# EAGLE library part 1X8 (library LARS_409_CONNECTORS)
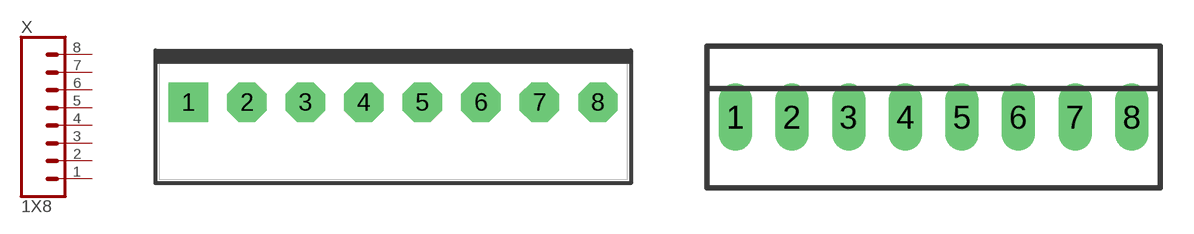
[diagram p2: symbol with the pads of JST-B8P-VH; footprints JST-B8P-VH, MOLEX-08]

Designator prefix X

## 1X8B8P-VH  [JST-B8P-VH]
1  1  pas
2  2  pas
3  3  pas
4  4  pas
5  5  pas
6  6  pas
7  7  pas
8  8  pas

## 1X8MOLEX-08  [MOLEX-08]
Pads as for JST-B8P-VH

## 1X8JST-XH-08  [JST-XH-08]
Pads as for JST-B8P-VH

## 1X8  [WF-8]
P$1  1  pas
P$2  2  pas
P$3  3  pas
P$4  4  pas
P$5  5  pas
P$6  6  pas
P$7  7  pas
P$8  8  pas

## 1X8EDGVC  [15EDGVC-3.5-8P]
Pads as for JST-B8P-VH

## 1X8EDV5/.08  [15EDGVC-5.08-08P]
Pads as for JST-B8P-VH

## 1X8DUPON  [1X08DUPON]
Pads as for JST-B8P-VH

## 1X8FFC-05MM_8  [FFC-0.5MM_8]
Pads as for JST-B8P-VH

## Footprint JST-B8P-VH (pad centres in mm)
HEADER
drill 1.778 square: 1 -13.86,0
drill 1.778 octagon: 2 -9.9,0; 3 -5.94,0; 4 -1.98,0; 5 1.98,0; 6 5.94,0; 7 9.9,0; 8 13.86,0

## Footprint MOLEX-08 (pad centres in mm)
KK® 254 Solid Header, Vertical, with Friction Lock, 8 Circuits, Tin (Sn) Plating Datasheet <http://www.molex.com/pdm_docs/sd/022232081_sd.pdf>
drill 1 long: 1 -8.89,0; 2 -6.35,0; 3 -3.81,0; 4 -1.27,0; 5 1.27,0; 6 3.81,0; 7 6.35,0; 8 8.89,0

## Footprint JST-XH-08 (pad centres in mm)
JST XH Connector Long Pads (Package) Wire to board connector. Pitch: 2,54 mm, (0.100") Number of pins: 8 Created by Rembrandt Electronics www.rembrandtelectronics.com
drill 1.016 long: 1 -8.89,0; 2 -6.35,0; 3 -3.81,0; 4 -1.27,0; 5 1.27,0; 6 3.81,0; 7 6.35,0; 8 8.89,0

## Footprint WF-8 (pad centres in mm)
drill 0.8 pad 1.8: P$1 -8.89,0; P$2 -6.35,0; P$3 -3.81,0; P$4 -1.27,0; P$5 1.27,0; P$6 3.81,0; P$7 6.35,0; P$8 8.89,0

## Footprint 15EDGVC-3.5-8P (pad centres in mm)
drill 1.1 pad 1.93 long: 1 0.015,0; 2 3.515,0; 3 7.015,0; 4 10.515,0; 5 14.015,0; 6 17.515,0; 7 21.015,0; 8 24.515,0

## Footprint 15EDGVC-5.08-08P (pad centres in mm)
drill 1.1 pad 1.93 long: 1 0,0; 2 5.08,0; 3 10.16,0; 4 15.24,0; 5 20.32,0; 6 25.4,0; 7 30.48,0; 8 35.56,0

## Footprint 1X08DUPON (pad centres in mm)
Single-row, 8-pin Pin Header (Male) Straight, 2.54 mm (0.10 in) col pitch, 5.84 mm mating length, 20.32 X 2.54 X 8.38 mm body Single-row (1X8), 8-pin Pin Header (Male) Straight package with 2.54 mm (0.10 in) col pitch, 0.64 mm lead width, 3.00 mm tail length and 5.84 mm mating length with overall size 20.32 X 2.54 X 8.38 mm, pin pattern - clockwise from top left
drill 1.016 pad 1.88: 1 0,0; 2 2.54,0; 3 5.08,0; 4 7.62,0; 5 10.16,0; 6 12.7,0; 7 15.24,0; 8 17.78,0

## Footprint FFC-0.5MM_8 (pad centres in mm)
smd 0.3 x 4: 1 -1.75,0; 2 -1.25,0; 3 -0.75,0; 4 -0.25,0; 5 0.25,0; 6 0.75,0; 7 1.25,0; 8 1.75,0